# EAGLE library part MPL3115A2 (library freescale-semi)
IC ALTIMETER I2C VERSION 8LGA
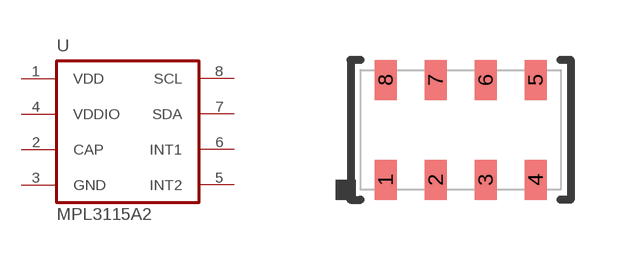
[diagram p5: symbol with the pads of LG8-IO; footprint LG8-IO]

Designator prefix U

## MPL3115A2  [LG8-IO]
1  VDD  pwr
2  CAP  in
3  GND  pwr
4  VDDIO  pwr
5  INT2
6  INT1
7  SDA
8  SCL

## Footprint LG8-IO (pad centres in mm)
LG 8 I/O 3 x 5 x 1.25 mm pitch
smd 0.55 x 1: 1 -1.875,-1.25; 2 -0.625,-1.25; 3 0.625,-1.25; 4 1.875,-1.25; 5 1.875,1.25; 6 0.625,1.25; 7 -0.625,1.25; 8 -1.875,1.25